# Altium schematic symbol library MP2359DJ-LF-Z.Schlib: 1 symbol
Pins are listed as number, name and electrical type; pins without a type are passive.

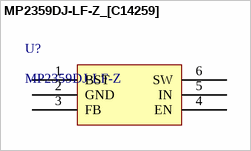
[diagram p0: symbol MP2359DJ-LF-Z_[C14259]]

## MP2359DJ-LF-Z_[C14259]
designator U?, comment MP2359DJ-LF-Z
DC-DC芯片
footprint SOT-23-6
pins: 1 BST, 2 GND, 3 FB, 4 EN, 5 IN, 6 SW